# EAGLE library part MAX548 (library disdev)
Delay Line
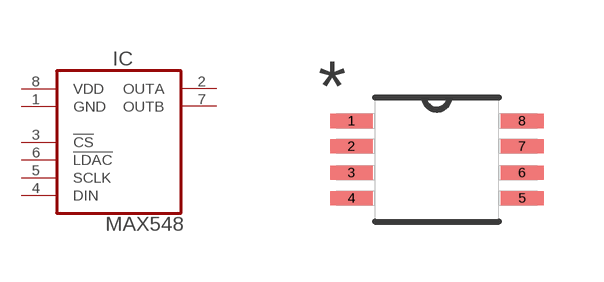
[diagram p2: symbol with the pads of UMAX8; footprint UMAX8]

Designator prefix IC

## MAX548  [UMAX8]
1  GND  pwr
2  OUTA  out
3  !CS  in
4  DIN  in
5  SCLK  in
6  !LDAC  in
7  OUTB  out
8  VDD  pwr

## Footprint UMAX8 (pad centres in mm)
smd 1.067 x 0.356: 1 -2.134,0.965; 2 -2.134,0.33; 3 -2.134,-0.33; 4 -2.134,-0.965; 5 2.134,-0.965; 6 2.134,-0.33; 7 2.134,0.33; 8 2.134,0.965